# Altium footprint library AMPHENOL_GSB1C41110SSHR.PcbLib: 1 footprints
Each footprint in its own frame and in the unit in brackets; x right, y up, seen from the top. Pads: shape width x height; smd on the part's side, far side on the other; paste and mask are expansions set on the pad; w line width, h text height; cw(c..) or ccw(c..) is an arc to the next point about the centre after c.
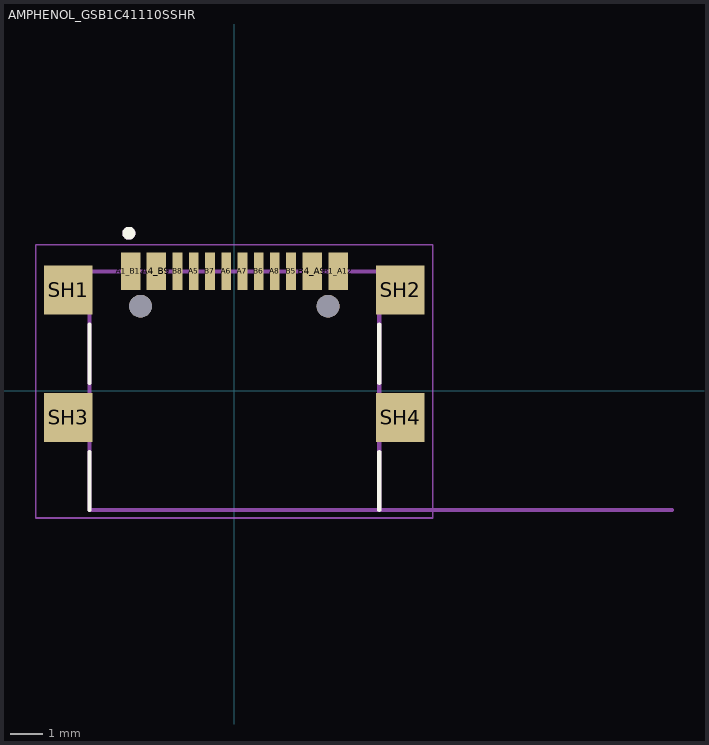
[diagram p0: the footprint, top view; thin cyan lines are the x and y axes]

## AMPHENOL_GSB1C41110SSHR [mm]
height 3.21
pads (18):
  rect 0.6x1.15 smd mask+0.05: A1_B12(-3.2,3.68) A4_B9(-2.4,3.68) B1_A12(3.2,3.68) B4_A9(2.4,3.68)
  rect 0.3x1.15 smd mask+0.05: A5(-1.25,3.68) A6(-0.25,3.68) A7(0.25,3.68) A8(1.25,3.68) B5(1.75,3.68) B6(0.75,3.68) B7(-0.75,3.68) B8(-1.75,3.68)
  rect 1.5x1.5 smd: SH1(-5.12,3.105) SH2(5.12,3.105) SH3(-5.12,-0.825) SH4(5.12,-0.825)
  round 0.7 hole 0.7 unplated: ""(-2.89,2.605) ""(2.89,2.605)
Top Overlay:
  circle w0.2: c-3.25,4.855 r0.1
  lines w0.127: -4.47,-3.675 -4.47,-1.889 ; -4.47,0.239 -4.47,2.041 ; 4.47,-3.675 4.47,-1.889 ; 4.47,0.239 4.47,2.041
Mechanical 13:
  circle w0.2: c-3.25,4.855 r0.1
  lines w0.127: 13.5,-3.675 4.47,-3.675 ; 4.47,-3.675 -4.47,-3.675 -4.47,3.675 4.47,3.675 4.47,-3.675
  text "PCB EDGE" at 6.35,-3.427 h1
Mechanical 15:
  lines w0.05: -6.12,-3.925 -6.12,4.505 6.12,4.505 6.12,-3.925 -6.12,-3.925
3D body "step_temp.STEP": height 1.58, standoff -2.3, extent -5.67,-3.683 5.67,3.915